# Altium integrated library ON Semi MOSFETs.IntLib: 1097 symbols (part 19 of 26)
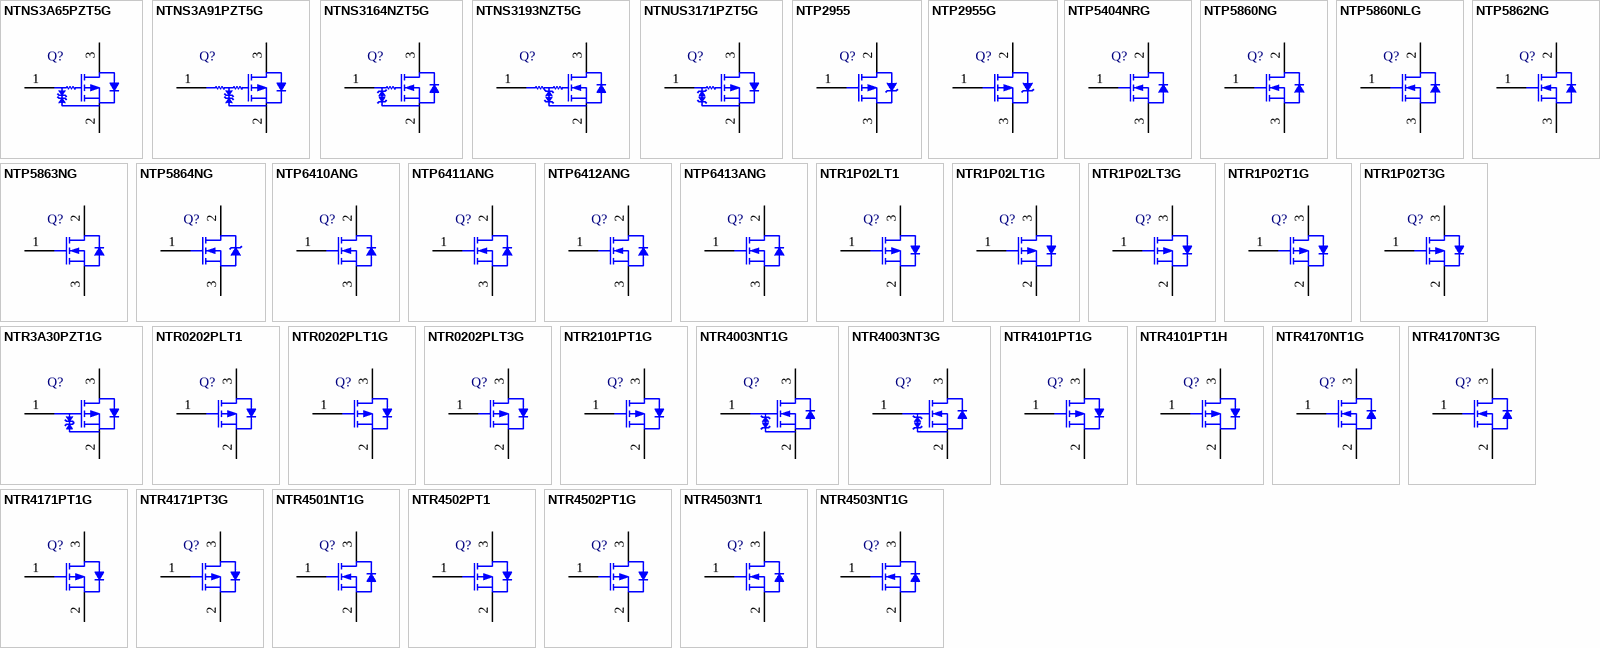
[diagram p49: symbols NTNS3A65PZT5G to NTR4503NT1G]

## NTR1P02LT1
designator Q?
Power MOSFET, -20 V, -1.3 A, P-Channel, 3-Pin SOT-23, Tape and Reel; Manufacturer: On Semiconductor; PartNumber: NTR1P02LT1; Channel Polarity: P Channel; Ciss Typ (pF): 225; Configuration: Single; Coss Typ (pF): 130; Crss Typ (pF): 55; ID Max (A): 1.3; PD Max (W): 0.4; Qrr Typ (nC): 8.5; V(BR)DSS Min (V): 20; VGS Max (V): 12; VGS(th) Max (V): 1.25; DatasheetVersion: Rev. 13; PackageVersion: Rev. AP, 11/2009; PackageReference: SOT-23-3-318-08; PackageDescription: 3-Pin Small Outline Transistor, Body 2.92 x 1.3 mm, Pitch 0.95 mm; Package Type: SOT-23-3; Packing: Tape and Reel; Mounting Technology: Surface Mount; ComponentLink1Description: Manufacturer URL; ComponentLink1URL: http://www.onsemi.com/; ComponentLink2Description: Datasheet; ComponentLink2URL: http://www.onsemi.cn/pub_link/Collateral/NTR1P02LT1-D.PDF; ComponentLink3Description: Package Specification; ComponentLink3URL: http://www.onsemi.cn/pub_link/Collateral/318-08.PDF
footprint ONSC-SOT-23-3-318-08_V (SOT23, 3-Leads, Body 2.92x1.3mm, Pitch 0.95mm)
pins: 1 G, 2 S, 3 D

## NTR1P02LT1G
designator Q?
Power MOSFET, -20 V, -1.3 A, P-Channel, 3-Pin SOT-23, Pb-Free, Tape and Reel; Manufacturer: On Semiconductor; PartNumber: NTR1P02LT1G; Channel Polarity: P Channel; Ciss Typ (pF): 225; Configuration: Single; Coss Typ (pF): 130; Crss Typ (pF): 55; ID Max (A): 1.3; PD Max (W): 0.4; Qrr Typ (nC): 8.5; V(BR)DSS Min (V): 20; VGS Max (V): 12; VGS(th) Max (V): 1.25; DatasheetVersion: Rev. 13; PackageVersion: Rev. AP, 11/2009; PackageReference: SOT-23-3-318-08; PackageDescription: 3-Pin Small Outline Transistor, Body 2.92 x 1.3 mm, Pitch 0.95 mm; Package Type: SOT-23-3; Packing: Tape and Reel; RoHS: Pb-Free; Mounting Technology: Surface Mount; ComponentLink1Description: Manufacturer URL; ComponentLink1URL: http://www.onsemi.com/; ComponentLink2Description: Datasheet; ComponentLink2URL: http://www.onsemi.cn/pub_link/Collateral/NTR1P02LT1-D.PDF; ComponentLink3Description: Package Specification; ComponentLink3URL: http://www.onsemi.cn/pub_link/Collateral/318-08.PDF
footprint ONSC-SOT-23-3-318-08_V (SOT23, 3-Leads, Body 2.92x1.3mm, Pitch 0.95mm)
pins: 1 G, 2 S, 3 D

## NTR1P02LT3G
designator Q?
Power MOSFET, -20 V, -1.3 A, P-Channel, 3-Pin SOT-23, Pb-Free, Tape and Reel; Manufacturer: On Semiconductor; PartNumber: NTR1P02LT3G; Channel Polarity: P Channel; Ciss Typ (pF): 225; Configuration: Single; Coss Typ (pF): 130; Crss Typ (pF): 55; ID Max (A): 1.3; PD Max (W): 0.4; Qrr Typ (nC): 8.5; V(BR)DSS Min (V): 20; VGS Max (V): 12; VGS(th) Max (V): 1.25; DatasheetVersion: Rev. 13; PackageVersion: Rev. AP, 11/2009; PackageReference: SOT-23-3-318-08; PackageDescription: 3-Pin Small Outline Transistor, Body 2.92 x 1.3 mm, Pitch 0.95 mm; Package Type: SOT-23-3; Packing: Tape and Reel; RoHS: Pb-Free; Mounting Technology: Surface Mount; ComponentLink1Description: Manufacturer URL; ComponentLink1URL: http://www.onsemi.com/; ComponentLink2Description: Datasheet; ComponentLink2URL: http://www.onsemi.cn/pub_link/Collateral/NTR1P02LT1-D.PDF; ComponentLink3Description: Package Specification; ComponentLink3URL: http://www.onsemi.cn/pub_link/Collateral/318-08.PDF
footprint ONSC-SOT-23-3-318-08_V (SOT23, 3-Leads, Body 2.92x1.3mm, Pitch 0.95mm)
pins: 1 G, 2 S, 3 D

## NTR1P02T1G
designator Q?
Power MOSFET, -20 V, -1 A, P-Channel, 3-Pin SOT-23, Pb-Free, Tape and Reel; Manufacturer: On Semiconductor; PartNumber: NTR1P02T1G; Channel Polarity: P Channel; Ciss Typ (pF): 165; Configuration: Single; Coss Typ (pF): 110; Crss Typ (pF): 35; ID Max (A): 1; PD Max (W): 0.4; Qrr Typ (nC): 8; V(BR)DSS Min (V): 20; VGS(th) Max (V): 2.3; DatasheetVersion: Rev. 7; PackageVersion: Rev. AP, 11/2009; PackageReference: SOT-23-3-318-08; PackageDescription: 3-Pin Small Outline Transistor, Body 2.92 x 1.3 mm, Pitch 0.95 mm; Package Type: SOT-23-3; Packing: Tape and Reel; RoHS: Pb-Free; VGS Max (V): 20; Mounting Technology: Surface Mount; ComponentLink1Description: Manufacturer URL; ComponentLink1URL: http://www.onsemi.com/; ComponentLink2Description: Datasheet; ComponentLink2URL: http://www.onsemi.cn/pub_link/Collateral/NTR1P02T1-D.PDF; ComponentLink3Description: Package Specification; ComponentLink3URL: http://www.onsemi.cn/pub_link/Collateral/318-08.PDF
footprint ONSC-SOT-23-3-318-08_V (SOT23, 3-Leads, Body 2.92x1.3mm, Pitch 0.95mm)
pins: 1 G, 2 S, 3 D

## NTR1P02T3G
designator Q?
Power MOSFET, -20 V, -1 A, P-Channel, 3-Pin SOT-23, Pb-Free, Tape and Reel; Manufacturer: On Semiconductor; PartNumber: NTR1P02T3G; Channel Polarity: P Channel; Ciss Typ (pF): 165; Configuration: Single; Coss Typ (pF): 110; Crss Typ (pF): 35; ID Max (A): 1; PD Max (W): 0.4; Qrr Typ (nC): 8; V(BR)DSS Min (V): 20; VGS(th) Max (V): 2.3; DatasheetVersion: Rev. 7; PackageVersion: Rev. AP, 11/2009; PackageReference: SOT-23-3-318-08; PackageDescription: 3-Pin Small Outline Transistor, Body 2.92 x 1.3 mm, Pitch 0.95 mm; Package Type: SOT-23-3; Packing: Tape and Reel; RoHS: Pb-Free; VGS Max (V): 20; Mounting Technology: Surface Mount; ComponentLink1Description: Manufacturer URL; ComponentLink1URL: http://www.onsemi.com/; ComponentLink2Description: Datasheet; ComponentLink2URL: http://www.onsemi.cn/pub_link/Collateral/NTR1P02T1-D.PDF; ComponentLink3Description: Package Specification; ComponentLink3URL: http://www.onsemi.cn/pub_link/Collateral/318-08.PDF
footprint ONSC-SOT-23-3-318-08_V (SOT23, 3-Leads, Body 2.92x1.3mm, Pitch 0.95mm)
pins: 1 G, 2 S, 3 D

## NTR3A30PZT1G
designator Q?
Power MOSFET, -20 V, -5.5 A, Single P-Channel, 3-Pin SOT-23, Pb-Free, Tape and Reel; Manufacturer: On Semiconductor; PartNumber: NTR3A30PZT1G; Channel Polarity: P Channel; Ciss Typ (pF): 1651; Coss Typ (pF): 148; Crss Typ (pF): 129; ID Max (A): 5.5; V(BR)DSS Min (V): 20; VGS Max (V): 8; VGS(th) Max (V): 1; DatasheetVersion: Rev. 1; PackageVersion: Rev. AP, 11/2009; PackageReference: SOT-23-3-318-08; PackageDescription: 3-Pin Small Outline Transistor, Body 2.92 x 1.3 mm, Pitch 0.95 mm; Supplier 1: Newark; Supplier Part Number 1: 97W6389; Supplier 2: Mouser; Supplier Part Number 2: 863-NTR3A30PZT1G; Configuration: Single; Package Type: SOT-23-3; Packing: Tape and Reel; RoHS: Pb-Free; Mounting Technology: Surface Mount; ComponentLink1Description: Manufacturer URL; ComponentLink1URL: http://www.onsemi.com/; ComponentLink2Description: Datasheet; ComponentLink2URL: http://www.onsemi.com/pub_link/Collateral/NTR3A30PZ-D.PDF; ComponentLink3Description: Package Specification; ComponentLink3URL: http://www.onsemi.cn/pub_link/Collateral/318-08.PDF
footprint ONSC-SOT-23-3-318-08_V (SOT23, 3-Leads, Body 2.92x1.3mm, Pitch 0.95mm)
pins: 1 G, 2 S, 3 D

## NTR0202PLT1
designator Q?
Power MOSFET, -20 V, -400 mA, P-Channel, 3-Pin SOT-23, Tape and Reel; Manufacturer: On Semiconductor; PartNumber: NTR0202PLT1; Channel Polarity: P Channel; Ciss Typ (pF): 70; Configuration: Single; Coss Typ (pF): 74; Crss Typ (pF): 26; ID Max (A): 0.4; PD Max (W): 0.225; Qrr Typ (nC): 7; V(BR)DSS Min (V): 20; VGS(th) Max (V): 2.3; DatasheetVersion: Rev. 5; PackageVersion: Rev. AP, 11/2009; PackageReference: SOT-23-3-318-08; PackageDescription: 3-Pin Small Outline Transistor, Body 2.92 x 1.3 mm, Pitch 0.95 mm; Package Type: SOT-23-3; Packing: Tape and Reel; VGS Max (V): 20; Mounting Technology: Surface Mount; ComponentLink1Description: Manufacturer URL; ComponentLink1URL: http://www.onsemi.com/; ComponentLink2Description: Datasheet; ComponentLink2URL: http://www.onsemi.cn/pub_link/Collateral/NTR0202PL-D.PDF; ComponentLink3Description: Package Specification; ComponentLink3URL: http://www.onsemi.cn/pub_link/Collateral/318-08.PDF
footprint ONSC-SOT-23-3-318-08_V (SOT23, 3-Leads, Body 2.92x1.3mm, Pitch 0.95mm)
pins: 1 G, 2 S, 3 D

## NTR0202PLT1G
designator Q?
Power MOSFET, -20 V, -400 mA, P-Channel, 3-Pin SOT-23, Pb-Free, Tape and Reel; Manufacturer: On Semiconductor; PartNumber: NTR0202PLT1G; Channel Polarity: P Channel; Ciss Typ (pF): 70; Configuration: Single; Coss Typ (pF): 74; Crss Typ (pF): 26; ID Max (A): 0.4; PD Max (W): 0.225; Qrr Typ (nC): 7; V(BR)DSS Min (V): 20; VGS(th) Max (V): 2.3; DatasheetVersion: Rev. 5; PackageVersion: Rev. AP, 11/2009; PackageReference: SOT-23-3-318-08; PackageDescription: 3-Pin Small Outline Transistor, Body 2.92 x 1.3 mm, Pitch 0.95 mm; Package Type: SOT-23-3; Packing: Tape and Reel; RoHS: Pb-Free; VGS Max (V): 20; Mounting Technology: Surface Mount; ComponentLink1Description: Manufacturer URL; ComponentLink1URL: http://www.onsemi.com/; ComponentLink2Description: Datasheet; ComponentLink2URL: http://www.onsemi.cn/pub_link/Collateral/NTR0202PL-D.PDF; ComponentLink3Description: Package Specification; ComponentLink3URL: http://www.onsemi.cn/pub_link/Collateral/318-08.PDF
footprint ONSC-SOT-23-3-318-08_V (SOT23, 3-Leads, Body 2.92x1.3mm, Pitch 0.95mm)
pins: 1 G, 2 S, 3 D

## NTR0202PLT3G
designator Q?
Power MOSFET, -20 V, -400 mA, P-Channel, 3-Pin SOT-23, Pb-Free, Tape and Reel; Manufacturer: On Semiconductor; PartNumber: NTR0202PLT3G; Channel Polarity: P Channel; Ciss Typ (pF): 70; Configuration: Single; Coss Typ (pF): 74; Crss Typ (pF): 26; ID Max (A): 0.4; PD Max (W): 0.225; Qrr Typ (nC): 7; V(BR)DSS Min (V): 20; VGS(th) Max (V): 2.3; DatasheetVersion: Rev. 5; PackageVersion: Rev. AP, 11/2009; PackageReference: SOT-23-3-318-08; PackageDescription: 3-Pin Small Outline Transistor, Body 2.92 x 1.3 mm, Pitch 0.95 mm; Package Type: SOT-23-3; Packing: Tape and Reel; RoHS: Pb-Free; VGS Max (V): 20; Mounting Technology: Surface Mount; ComponentLink1Description: Manufacturer URL; ComponentLink1URL: http://www.onsemi.com/; ComponentLink2Description: Datasheet; ComponentLink2URL: http://www.onsemi.cn/pub_link/Collateral/NTR0202PL-D.PDF; ComponentLink3Description: Package Specification; ComponentLink3URL: http://www.onsemi.cn/pub_link/Collateral/318-08.PDF
footprint ONSC-SOT-23-3-318-08_V (SOT23, 3-Leads, Body 2.92x1.3mm, Pitch 0.95mm)
pins: 1 G, 2 S, 3 D

## NTR2101PT1G
designator Q?
Small Signal MOSFET, -8 V, -3.7 A, Single P-Channel, 3-Pin SOT-23, Pb-Free, Tape and Reel; Manufacturer: On Semiconductor; PartNumber: NTR2101PT1G; Channel Polarity: P Channel; Ciss Typ (pF): 1173; Coss Typ (pF): 289; Crss Typ (pF): 218; ID Max (A): 3.7; PD Max (W): 0.96; V(BR)DSS Min (V): 8; VGS(th) Max (V): 1; DatasheetVersion: Rev. 6; PackageVersion: Rev. AP, 11/2009; PackageReference: SOT-23-3-318-08; PackageDescription: 3-Pin Small Outline Transistor, Body 2.92 x 1.3 mm, Pitch 0.95 mm; Configuration: Single; Package Type: SOT-23-3; Packing: Tape and Reel; RoHS: Pb-Free; VGS Max (V): 8; Mounting Technology: Surface Mount; ComponentLink1Description: Manufacturer URL; ComponentLink1URL: http://www.onsemi.com/; ComponentLink2Description: Datasheet; ComponentLink2URL: http://www.onsemi.cn/pub_link/Collateral/NTR2101P-D.PDF; ComponentLink3Description: Package Specification; ComponentLink3URL: http://www.onsemi.cn/pub_link/Collateral/318-08.PDF
footprint ONSC-SOT-23-3-318-08_V (SOT23, 3-Leads, Body 2.92x1.3mm, Pitch 0.95mm)
pins: 1 G, 2 S, 3 D

## NTR4003NT1G
designator Q?
Small Signal MOSFET, 30 V, 0.56 A, Single N-Channe, 3-Pin SOT-23, Pb-Free, Tape and Reel; Manufacturer: On Semiconductor; PartNumber: NTR4003NT1G; Channel Polarity: N Channel; Ciss Typ (pF): 21; Coss Typ (pF): 19.7; Crss Typ (pF): 8.1; ID Max (A): 0.56; V(BR)DSS Min (V): 30; VGS Max (V): 20; VGS(th) Max (V): 1.4; DatasheetVersion: Rev. 3; PackageVersion: Rev. AP, 11/2009; PackageReference: SOT-23-3-318-08; PackageDescription: 3-Pin Small Outline Transistor, Body 2.92 x 1.3 mm, Pitch 0.95 mm; Supplier 1: Digi-Key; Supplier Part Number 1: NTR4003NT1GOSTR-ND; Supplier 2: Digi-Key; Supplier Part Number 2: NTR4003NT1GOSCT-ND; Supplier 3: Digi-Key; Supplier Part Number 3: NTR4003NT1GOSDKR-ND; Supplier 4: Farnell; Supplier Part Number 4: 1453635RL; Supplier 5: Farnell; Supplier Part Number 5: 1453635; Supplier 6: Newark; Supplier Part Number 6: 58M9926; Supplier 7: Newark; Supplier Part Number 7: 10N9588; Supplier 8: Newark; Supplier Part Number 8: 27M2766; Supplier 9: Mouser; Supplier Part Number 9: 863-NTR4003NT1G; Configuration: Single; Package Type: SOT-23-3; Packing: Tape and Reel; RoHS: Pb-Free; Mounting Technology: Surface Mount; ComponentLink1Description: Manufacturer URL; ComponentLink1URL: http://www.onsemi.com/; ComponentLink2Description: Datasheet; ComponentLink2URL: http://www.onsemi.cn/pub_link/Collateral/NTR4003N-D.PDF; ComponentLink3Description: Package Specification; ComponentLink3URL: http://www.onsemi.cn/pub_link/Collateral/318-08.PDF
footprint ONSC-SOT-23-3-318-08_V (SOT23, 3-Leads, Body 2.92x1.3mm, Pitch 0.95mm)
pins: 1 G, 2 S, 3 D

## NTR4003NT3G
designator Q?
Small Signal MOSFET, 30 V, 0.56 A, Single N-Channe, 3-Pin SOT-23, Pb-Free, Tape and Reel; Manufacturer: On Semiconductor; PartNumber: NTR4003NT3G; Channel Polarity: N Channel; Ciss Typ (pF): 21; Coss Typ (pF): 19.7; Crss Typ (pF): 8.1; ID Max (A): 0.56; V(BR)DSS Min (V): 30; VGS Max (V): 20; VGS(th) Max (V): 1.4; DatasheetVersion: Rev. 3; PackageVersion: Rev. AP, 11/2009; PackageReference: SOT-23-3-318-08; PackageDescription: 3-Pin Small Outline Transistor, Body 2.92 x 1.3 mm, Pitch 0.95 mm; Supplier 1: Digi-Key; Supplier Part Number 1: NTR4003NT3GOSTR-ND; Supplier 2: Digi-Key; Supplier Part Number 2: NTR4003NT3GOSCT-ND; Supplier 3: Digi-Key; Supplier Part Number 3: NTR4003NT3GOSDKR-ND; Supplier 4: Farnell; Supplier Part Number 4: 2101820; Supplier 5: Farnell; Supplier Part Number 5: 2369155; Supplier 6: Mouser; Supplier Part Number 6: 863-NTR4003NT3G; Configuration: Single; Package Type: SOT-23-3; Packing: Tape and Reel; RoHS: Pb-Free; Mounting Technology: Surface Mount; ComponentLink1Description: Manufacturer URL; ComponentLink1URL: http://www.onsemi.com/; ComponentLink2Description: Datasheet; ComponentLink2URL: http://www.onsemi.cn/pub_link/Collateral/NTR4003N-D.PDF; ComponentLink3Description: Package Specification; ComponentLink3URL: http://www.onsemi.cn/pub_link/Collateral/318-08.PDF
footprint ONSC-SOT-23-3-318-08_V (SOT23, 3-Leads, Body 2.92x1.3mm, Pitch 0.95mm)
pins: 1 G, 2 S, 3 D

## NTR4101PT1G
designator Q?
Trench Power MOSFET, -20 V, Single P-Channel, 3-Pin SOT-23, Pb-Free, Tape and Reel; Manufacturer: On Semiconductor; PartNumber: NTR4101PT1G; Channel Polarity: P Channel; Ciss Typ (pF): 675; Coss Typ (pF): 100; Crss Typ (pF): 75; ID Max (A): 3.2; Qrr Typ (nC): 1008; V(BR)DSS Min (V): 20; VGS Max (V): 8; VGS(th) Max (V): 1.2; DatasheetVersion: Rev. 9; PackageVersion: Rev. AP, 11/2009; PackageReference: SOT-23-3-318-08; PackageDescription: 3-Pin Small Outline Transistor, Body 2.92 x 1.3 mm, Pitch 0.95 mm; Supplier 1: Digi-Key; Supplier Part Number 1: NTR4101PT1GOSTR-ND; Supplier 2: Digi-Key; Supplier Part Number 2: NTR4101PT1GOSCT-ND; Supplier 3: Digi-Key; Supplier Part Number 3: NTR4101PT1GOSDKR-ND; Supplier 4: Farnell; Supplier Part Number 4: 2317885; Supplier 5: Farnell; Supplier Part Number 5: 1431303RL; Supplier 6: Farnell; Supplier Part Number 6: 1431303; Supplier 7: Newark; Supplier Part Number 7: 88H5127; Supplier 8: Newark; Supplier Part Number 8: 10P1661; Supplier 9: Mouser; Supplier Part Number 9: 863-NTR4101PT1G; Configuration: Single; Package Type: SOT-23-3; Packing: Tape and Reel; RoHS: Pb-Free; Mounting Technology: Surface Mount; ComponentLink1Description: Manufacturer URL; ComponentLink1URL: http://www.onsemi.com/; ComponentLink2Description: Datasheet; ComponentLink2URL: http://www.onsemi.cn/pub_link/Collateral/NTR4101P-D.PDF; ComponentLink3Description: Package Specification; ComponentLink3URL: http://www.onsemi.cn/pub_link/Collateral/318-08.PDF
footprint ONSC-SOT-23-3-318-08_V (SOT23, 3-Leads, Body 2.92x1.3mm, Pitch 0.95mm)
pins: 1 G, 2 S, 3 D

## NTR4101PT1H
designator Q?
Trench Power MOSFET, -20 V, Single P-Channel, 3-Pin SOT-23, Pb-Free, Tape and Reel; Manufacturer: On Semiconductor; PartNumber: NTR4101PT1H; Channel Polarity: P Channel; Ciss Typ (pF): 675; Coss Typ (pF): 100; Crss Typ (pF): 75; ID Max (A): 3.2; Qrr Typ (nC): 1008; V(BR)DSS Min (V): 20; VGS Max (V): 8; VGS(th) Max (V): 1.2; DatasheetVersion: Rev. 9; PackageVersion: Rev. AP, 11/2009; PackageReference: SOT-23-3-318-08; PackageDescription: 3-Pin Small Outline Transistor, Body 2.92 x 1.3 mm, Pitch 0.95 mm; Supplier 1: Newark; Supplier Part Number 1: 60W1811; Supplier 2: Mouser; Supplier Part Number 2: 863-NTR4101PT1H; Configuration: Single; Package Type: SOT-23-3; Packing: Tape and Reel; RoHS: Pb-Free; Mounting Technology: Surface Mount; ComponentLink1Description: Manufacturer URL; ComponentLink1URL: http://www.onsemi.com/; ComponentLink2Description: Datasheet; ComponentLink2URL: http://www.onsemi.cn/pub_link/Collateral/NTR4101P-D.PDF; ComponentLink3Description: Package Specification; ComponentLink3URL: http://www.onsemi.cn/pub_link/Collateral/318-08.PDF
footprint ONSC-SOT-23-3-318-08_V (SOT23, 3-Leads, Body 2.92x1.3mm, Pitch 0.95mm)
pins: 1 G, 2 S, 3 D

## NTR4170NT1G
designator Q?
Power MOSFET, 30 V, 3.1 A, Single N-Channe, 3-Pin SOT-23, Pb-Free, Tape and Reel; Manufacturer: On Semiconductor; PartNumber: NTR4170NT1G; Channel Polarity: N Channel; Ciss Typ (pF): 432; Coss Typ (pF): 53.6; Crss Typ (pF): 37.1; Qrr Typ (nC): 2.9; V(BR)DSS Min (V): 30; VGS Max (V): 12; VGS(th) Max (V): 1.4; DatasheetVersion: Rev. 1; PackageVersion: Rev. AP, 11/2009; PackageReference: SOT-23-3-318-08; PackageDescription: 3-Pin Small Outline Transistor, Body 2.92 x 1.3 mm, Pitch 0.95 mm; Supplier 1: Digi-Key; Supplier Part Number 1: NTR4170NT1GOSTR-ND; Supplier 2: Digi-Key; Supplier Part Number 2: NTR4170NT1GOSCT-ND; Supplier 3: Digi-Key; Supplier Part Number 3: NTR4170NT1GOSDKR-ND; Supplier 4: Farnell; Supplier Part Number 4: 2368458; Supplier 5: Farnell; Supplier Part Number 5: 1887064; Supplier 6: Newark; Supplier Part Number 6: 05R9180; Supplier 7: Newark; Supplier Part Number 7: 08R4025; Supplier 8: Mouser; Supplier Part Number 8: 863-NTR4170NT1G; Configuration: Single; Package Type: SOT-23-3; Packing: Tape and Reel; RoHS: Pb-Free; Mounting Technology: Surface Mount; ComponentLink1Description: Manufacturer URL; ComponentLink1URL: http://www.onsemi.com/; ComponentLink2Description: Datasheet; ComponentLink2URL: http://www.onsemi.cn/pub_link/Collateral/NTR4170N-D.PDF; ComponentLink3Description: Package Specification; ComponentLink3URL: http://www.onsemi.cn/pub_link/Collateral/318-08.PDF
footprint ONSC-SOT-23-3-318-08_V (SOT23, 3-Leads, Body 2.92x1.3mm, Pitch 0.95mm)
pins: 1 G, 2 S, 3 D

## NTR4170NT3G
designator Q?
Power MOSFET, 30 V, 3.1 A, Single N-Channe, 3-Pin SOT-23, Pb-Free, Tape and Reel; Manufacturer: On Semiconductor; PartNumber: NTR4170NT3G; Channel Polarity: N Channel; Ciss Typ (pF): 432; Coss Typ (pF): 53.6; Crss Typ (pF): 37.1; Qrr Typ (nC): 2.9; V(BR)DSS Min (V): 30; VGS Max (V): 12; VGS(th) Max (V): 1.4; DatasheetVersion: Rev. 1; PackageVersion: Rev. AP, 11/2009; PackageReference: SOT-23-3-318-08; PackageDescription: 3-Pin Small Outline Transistor, Body 2.92 x 1.3 mm, Pitch 0.95 mm; Supplier 1: Digi-Key; Supplier Part Number 1: NTR4170NT3G-ND; Supplier 2: Mouser; Supplier Part Number 2: 863-NTR4170NT3G; Configuration: Single; Package Type: SOT-23-3; Packing: Tape and Reel; RoHS: Pb-Free; Mounting Technology: Surface Mount; ComponentLink1Description: Manufacturer URL; ComponentLink1URL: http://www.onsemi.com/; ComponentLink2Description: Datasheet; ComponentLink2URL: http://www.onsemi.cn/pub_link/Collateral/NTR4170N-D.PDF; ComponentLink3Description: Package Specification; ComponentLink3URL: http://www.onsemi.cn/pub_link/Collateral/318-08.PDF
footprint ONSC-SOT-23-3-318-08_V (SOT23, 3-Leads, Body 2.92x1.3mm, Pitch 0.95mm)
pins: 1 G, 2 S, 3 D

## NTR4171PT1G
designator Q?
Power MOSFET, -30 V, 3.5 A, Single P-Channel, 3-Pin SOT-23, Pb-Free, Tape and Reel; Manufacturer: On Semiconductor; PartNumber: NTR4171PT1G; Channel Polarity: P Channel; Ciss Typ (pF): 720; Coss Typ (pF): 95; Crss Typ (pF): 65; Qrr Typ (nC): 8; V(BR)DSS Min (V): 30; VGS Max (V): 12; VGS(th) Max (V): 1.4; DatasheetVersion: Rev. 1; PackageVersion: Rev. AP, 11/2009; PackageReference: SOT-23-3-318-08; PackageDescription: 3-Pin Small Outline Transistor, Body 2.92 x 1.3 mm, Pitch 0.95 mm; Supplier 1: Digi-Key; Supplier Part Number 1: NTR4171PT1GOSTR-ND; Supplier 2: Digi-Key; Supplier Part Number 2: NTR4171PT1GOSCT-ND; Supplier 3: Digi-Key; Supplier Part Number 3: NTR4171PT1GOSDKR-ND; Supplier 4: Farnell; Supplier Part Number 4: 2317888; Supplier 5: Farnell; Supplier Part Number 5: 1899514; Supplier 6: Newark; Supplier Part Number 6: 08R4026; Supplier 7: Newark; Supplier Part Number 7: 05R9181; Supplier 8: Mouser; Supplier Part Number 8: 863-NTR4171PT1G; Configuration: Single; Package Type: SOT-23-3; Packing: Tape and Reel; RoHS: Pb-Free; Mounting Technology: Surface Mount; ComponentLink1Description: Manufacturer URL; ComponentLink1URL: http://www.onsemi.com/; ComponentLink2Description: Datasheet; ComponentLink2URL: http://www.onsemi.cn/pub_link/Collateral/NTR4171P-D.PDF; ComponentLink3Description: Package Specification; ComponentLink3URL: http://www.onsemi.cn/pub_link/Collateral/318-08.PDF
footprint ONSC-SOT-23-3-318-08_V (SOT23, 3-Leads, Body 2.92x1.3mm, Pitch 0.95mm)
pins: 1 G, 2 S, 3 D

## NTR4171PT3G
designator Q?
Power MOSFET, -30 V, 3.5 A, Single P-Channel, 3-Pin SOT-23, Pb-Free, Tape and Reel; Manufacturer: On Semiconductor; PartNumber: NTR4171PT3G; Channel Polarity: P Channel; Ciss Typ (pF): 720; Coss Typ (pF): 95; Crss Typ (pF): 65; Qrr Typ (nC): 8; V(BR)DSS Min (V): 30; VGS Max (V): 12; VGS(th) Max (V): 1.4; DatasheetVersion: Rev. 1; PackageVersion: Rev. AP, 11/2009; PackageReference: SOT-23-3-318-08; PackageDescription: 3-Pin Small Outline Transistor, Body 2.92 x 1.3 mm, Pitch 0.95 mm; Supplier 1: Digi-Key; Supplier Part Number 1: NTR4171PT3G-ND; Supplier 2: Mouser; Supplier Part Number 2: 863-NTR4171PT3G; Configuration: Single; Package Type: SOT-23-3; Packing: Tape and Reel; RoHS: Pb-Free; Mounting Technology: Surface Mount; ComponentLink1Description: Manufacturer URL; ComponentLink1URL: http://www.onsemi.com/; ComponentLink2Description: Datasheet; ComponentLink2URL: http://www.onsemi.cn/pub_link/Collateral/NTR4171P-D.PDF; ComponentLink3Description: Package Specification; ComponentLink3URL: http://www.onsemi.cn/pub_link/Collateral/318-08.PDF
footprint ONSC-SOT-23-3-318-08_V (SOT23, 3-Leads, Body 2.92x1.3mm, Pitch 0.95mm)
pins: 1 G, 2 S, 3 D

## NTR4501NT1G
designator Q?
Power MOSFET, 20 V, 3.2 A, Single N-Channel, 3-Pin SOT-23, Pb-Free, Tape and Reel; Manufacturer: On Semiconductor; PartNumber: NTR4501NT1G; Channel Polarity: N Channel; Ciss Typ (pF): 200; Coss Typ (pF): 80; Crss Typ (pF): 50; PD Max (W): 1.25; Qrr Typ (nC): 3; V(BR)DSS Min (V): 20; VGS Max (V): 12; VGS(th) Max (V): 1.2; DatasheetVersion: Rev. 13; PackageVersion: Rev. AP, 11/2009; PackageReference: SOT-23-3-318-08; PackageDescription: 3-Pin Small Outline Transistor, Body 2.92 x 1.3 mm, Pitch 0.95 mm; Supplier 1: Digi-Key; Supplier Part Number 1: NTR4501NT1GOSTR-ND; Supplier 2: Digi-Key; Supplier Part Number 2: NTR4501NT1GOSCT-ND; Supplier 3: Digi-Key; Supplier Part Number 3: NTR4501NT1GOSDKR-ND; Supplier 4: Farnell; Supplier Part Number 4: 1431305; Supplier 5: Farnell; Supplier Part Number 5: 1431305RL; Supplier 6: Newark; Supplier Part Number 6: 45J2175; Supplier 7: Newark; Supplier Part Number 7: 06R3476; Supplier 8: Mouser; Supplier Part Number 8: 863-NTR4501NT1G; Configuration: Single; Package Type: SOT-23-3; Packing: Tape and Reel; RoHS: Pb-Free; Mounting Technology: Surface Mount; ComponentLink1Description: Manufacturer URL; ComponentLink1URL: http://www.onsemi.com/; ComponentLink2Description: Datasheet; ComponentLink2URL: http://www.onsemi.cn/pub_link/Collateral/NTR4501N-D.PDF; ComponentLink3Description: Package Specification; ComponentLink3URL: http://www.onsemi.cn/pub_link/Collateral/318-08.PDF
footprint ONSC-SOT-23-3-318-08_V (SOT23, 3-Leads, Body 2.92x1.3mm, Pitch 0.95mm)
pins: 1 G, 2 S, 3 D

## NTR4502PT1
designator Q?
Power MOSFET, -30 V, -1.95 A, Single, P-Channel, 3-Pin SOT-23, Tape and Reel; Manufacturer: On Semiconductor; PartNumber: NTR4502PT1; Channel Polarity: P Channel; Ciss Typ (pF): 200; Coss Typ (pF): 80; Crss Typ (pF): 50; ID Max (A): 1.95; V(BR)DSS Min (V): 30; VGS Max (V): 20; VGS(th) Max (V): 3; DatasheetVersion: Rev. 5; PackageVersion: Rev. AP, 11/2009; PackageReference: SOT-23-3-318-08; PackageDescription: 3-Pin Small Outline Transistor, Body 2.92 x 1.3 mm, Pitch 0.95 mm; Supplier 1: Digi-Key; Supplier Part Number 1: NTR4502PT1-ND; Configuration: Single; Package Type: SOT-23-3; Packing: Tape and Reel; Mounting Technology: Surface Mount; ComponentLink1Description: Manufacturer URL; ComponentLink1URL: http://www.onsemi.com/; ComponentLink2Description: Datasheet; ComponentLink2URL: http://www.onsemi.cn/pub_link/Collateral/NTR4502P-D.PDF; ComponentLink3Description: Package Specification; ComponentLink3URL: http://www.onsemi.cn/pub_link/Collateral/318-08.PDF
footprint ONSC-SOT-23-3-318-08_V (SOT23, 3-Leads, Body 2.92x1.3mm, Pitch 0.95mm)
pins: 1 G, 2 S, 3 D

## NTR4502PT1G
designator Q?
Power MOSFET, -30 V, -1.95 A, Single, P-Channel, 3-Pin SOT-23, Pb-Free, Tape and Reel; Manufacturer: On Semiconductor; PartNumber: NTR4502PT1G; Channel Polarity: P Channel; Ciss Typ (pF): 200; Coss Typ (pF): 80; Crss Typ (pF): 50; ID Max (A): 1.95; V(BR)DSS Min (V): 30; VGS Max (V): 20; VGS(th) Max (V): 3; DatasheetVersion: Rev. 5; PackageVersion: Rev. AP, 11/2009; PackageReference: SOT-23-3-318-08; PackageDescription: 3-Pin Small Outline Transistor, Body 2.92 x 1.3 mm, Pitch 0.95 mm; Supplier 1: Digi-Key; Supplier Part Number 1: NTR4502PT1GOSTR-ND; Supplier 2: Digi-Key; Supplier Part Number 2: NTR4502PT1GOSCT-ND; Supplier 3: Digi-Key; Supplier Part Number 3: NTR4502PT1GOSDKR-ND; Supplier 4: Farnell; Supplier Part Number 4: 1431308; Supplier 5: Farnell; Supplier Part Number 5: 1431308RL; Supplier 6: Newark; Supplier Part Number 6: 10N9589; Supplier 7: Newark; Supplier Part Number 7: 98H0966; Supplier 8: Mouser; Supplier Part Number 8: 863-NTR4502PT1G; Configuration: Single; Package Type: SOT-23-3; Packing: Tape and Reel; RoHS: Pb-Free; Mounting Technology: Surface Mount; ComponentLink1Description: Manufacturer URL; ComponentLink1URL: http://www.onsemi.com/; ComponentLink2Description: Datasheet; ComponentLink2URL: http://www.onsemi.cn/pub_link/Collateral/NTR4502P-D.PDF; ComponentLink3Description: Package Specification; ComponentLink3URL: http://www.onsemi.cn/pub_link/Collateral/318-08.PDF
footprint ONSC-SOT-23-3-318-08_V (SOT23, 3-Leads, Body 2.92x1.3mm, Pitch 0.95mm)
pins: 1 G, 2 S, 3 D

## NTR4503NT1
designator Q?
Power MOSFET, 30 V, 2.5 A, Single N-Channel, 3-Pin SOT-23, Tape and Reel; Manufacturer: On Semiconductor; PartNumber: NTR4503NT1; Channel Polarity: N Channel; ID Max (A): 2.5; Qrr Typ (nC): 4; V(BR)DSS Min (V): 30; VGS Max (V): 20; VGS(th) Max (V): 3; DatasheetVersion: Rev. 6; PackageVersion: Rev. AP, 11/2009; PackageReference: SOT-23-3-318-08; PackageDescription: 3-Pin Small Outline Transistor, Body 2.92 x 1.3 mm, Pitch 0.95 mm; Supplier 1: Digi-Key; Supplier Part Number 1: NTR4503NT1-ND; Configuration: Single; Package Type: SOT-23-3; Packing: Tape and Reel; Mounting Technology: Surface Mount; ComponentLink1Description: Manufacturer URL; ComponentLink1URL: http://www.onsemi.com/; ComponentLink2Description: Datasheet; ComponentLink2URL: http://www.onsemi.cn/pub_link/Collateral/NTR4503N-D.PDF; ComponentLink3Description: Package Specification; ComponentLink3URL: http://www.onsemi.cn/pub_link/Collateral/318-08.PDF
footprint ONSC-SOT-23-3-318-08_V (SOT23, 3-Leads, Body 2.92x1.3mm, Pitch 0.95mm)
pins: 1 G, 2 S, 3 D

## NTR4503NT1G
designator Q?
Power MOSFET, 30 V, 2.5 A, Single N-Channel, 3-Pin SOT-23, Pb-Free, Tape and Reel; Manufacturer: On Semiconductor; PartNumber: NTR4503NT1G; Channel Polarity: N Channel; ID Max (A): 2.5; Qrr Typ (nC): 4; V(BR)DSS Min (V): 30; VGS Max (V): 20; VGS(th) Max (V): 3; DatasheetVersion: Rev. 6; PackageVersion: Rev. AP, 11/2009; PackageReference: SOT-23-3-318-08; PackageDescription: 3-Pin Small Outline Transistor, Body 2.92 x 1.3 mm, Pitch 0.95 mm; Supplier 1: Digi-Key; Supplier Part Number 1: NTR4503NT1GOSTR-ND; Supplier 2: Digi-Key; Supplier Part Number 2: NTR4503NT1GOSCT-ND; Supplier 3: Digi-Key; Supplier Part Number 3: NTR4503NT1GOSDKR-ND; Supplier 4: Farnell; Supplier Part Number 4: 1431309; Supplier 5: Farnell; Supplier Part Number 5: 1431309RL; Supplier 6: Farnell; Supplier Part Number 6: 1899563; Supplier 7: Newark; Supplier Part Number 7: 10N9590; Supplier 8: Newark; Supplier Part Number 8: 45J2177; Supplier 9: Mouser; Supplier Part Number 9: 863-NTR4503NT1G; Configuration: Single; Package Type: SOT-23-3; Packing: Tape and Reel; RoHS: Pb-Free; Mounting Technology: Surface Mount; ComponentLink1Description: Manufacturer URL; ComponentLink1URL: http://www.onsemi.com/; ComponentLink2Description: Datasheet; ComponentLink2URL: http://www.onsemi.cn/pub_link/Collateral/NTR4503N-D.PDF; ComponentLink3Description: Package Specification; ComponentLink3URL: http://www.onsemi.cn/pub_link/Collateral/318-08.PDF
footprint ONSC-SOT-23-3-318-08_V (SOT23, 3-Leads, Body 2.92x1.3mm, Pitch 0.95mm)
pins: 1 G, 2 S, 3 D

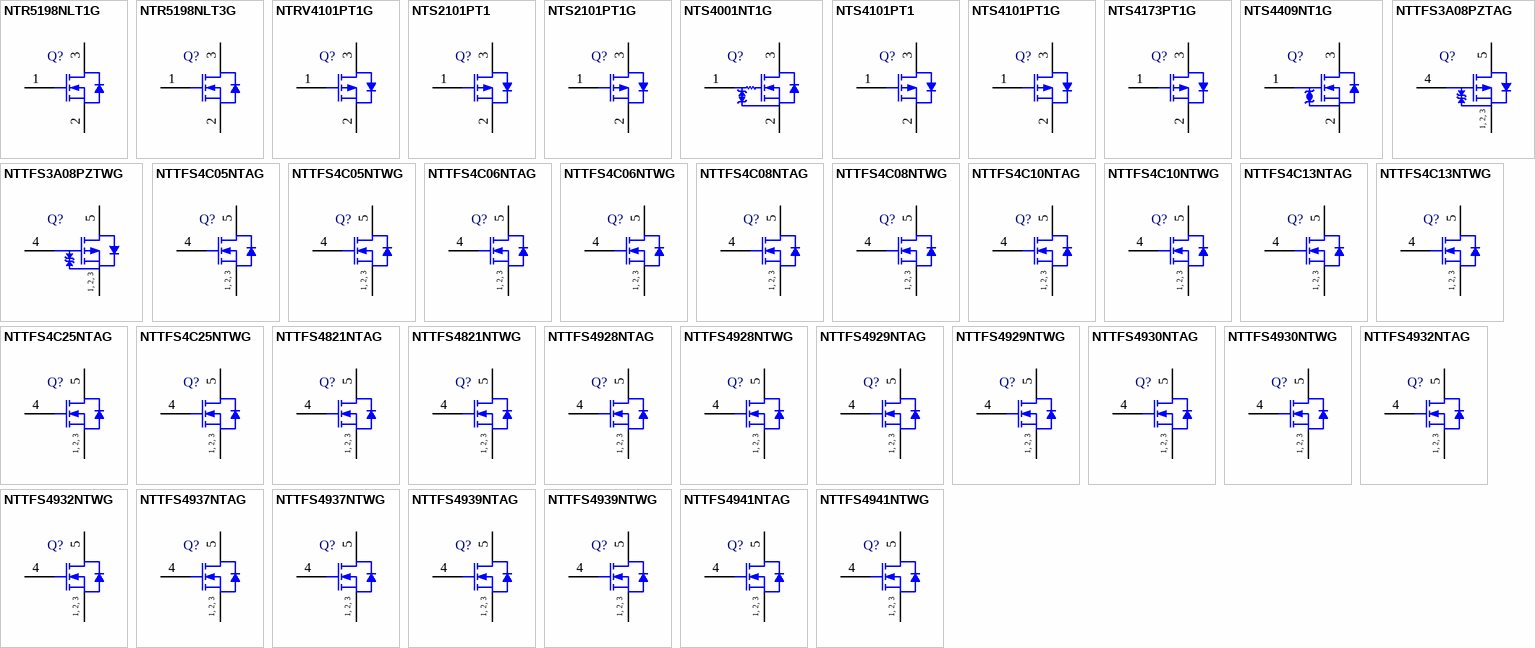
[diagram p23: symbols NTR5198NLT1G to NTTFS4941NTWG]

## NTR5198NLT1G
designator Q?
Power MOSFET, 60 V, 155 mOhm, Single N-Channel Logic Level, 3-Pin SOT-23, Pb-Free, Tape and Reel; Manufacturer: On Semiconductor; PartNumber: NTR5198NLT1G; Channel Polarity: N Channel; Ciss Typ (pF): 182; Coss Typ (pF): 25; Crss Typ (pF): 16; ID Max (A): 2.2; Qrr Typ (nC): 6; V(BR)DSS Min (V): 60; VGS Max (V): 20; VGS(th) Max (V): 2.5; DatasheetVersion: Rev. 0; PackageVersion: Rev. AP, 11/2009; PackageReference: SOT-23-3-318-08; PackageDescription: 3-Pin Small Outline Transistor, Body 2.92 x 1.3 mm, Pitch 0.95 mm; Supplier 1: Digi-Key; Supplier Part Number 1: NTR5198NLT1GOSTR-ND; Supplier 2: Digi-Key; Supplier Part Number 2: NTR5198NLT1GOSCT-ND; Supplier 3: Digi-Key; Supplier Part Number 3: NTR5198NLT1GOSDKR-ND; Supplier 4: Newark; Supplier Part Number 4: 11X3689; Supplier 5: Mouser; Supplier Part Number 5: 863-NTR5198NLT1G; Configuration: Single; Package Type: SOT-23-3; Packing: Tape and Reel; RoHS: Pb-Free; Mounting Technology: Surface Mount; ComponentLink1Description: Manufacturer URL; ComponentLink1URL: http://www.onsemi.com/; ComponentLink2Description: Datasheet; ComponentLink2URL: http://www.onsemi.com/pub_link/Collateral/NTR5198NL-D.PDF; ComponentLink3Description: Package Specification; ComponentLink3URL: http://www.onsemi.cn/pub_link/Collateral/318-08.PDF
footprint ONSC-SOT-23-3-318-08_V (SOT23, 3-Leads, Body 2.92x1.3mm, Pitch 0.95mm)
pins: 1 G, 2 S, 3 D

## NTR5198NLT3G
designator Q?
Power MOSFET, 60 V, 155 mOhm, Single N-Channel Logic Level, 3-Pin SOT-23, Pb-Free, Tape and Reel; Manufacturer: On Semiconductor; PartNumber: NTR5198NLT3G; Channel Polarity: N Channel; Ciss Typ (pF): 182; Coss Typ (pF): 25; Crss Typ (pF): 16; ID Max (A): 2.2; Qrr Typ (nC): 6; V(BR)DSS Min (V): 60; VGS Max (V): 20; VGS(th) Max (V): 2.5; DatasheetVersion: Rev. 0; PackageVersion: Rev. AP, 11/2009; PackageReference: SOT-23-3-318-08; PackageDescription: 3-Pin Small Outline Transistor, Body 2.92 x 1.3 mm, Pitch 0.95 mm; Supplier 1: Newark; Supplier Part Number 1: 11X3690; Supplier 2: Mouser; Supplier Part Number 2: 863-NTR5198NLT3G; Configuration: Single; Package Type: SOT-23-3; Packing: Tape and Reel; RoHS: Pb-Free; Mounting Technology: Surface Mount; ComponentLink1Description: Manufacturer URL; ComponentLink1URL: http://www.onsemi.com/; ComponentLink2Description: Datasheet; ComponentLink2URL: http://www.onsemi.com/pub_link/Collateral/NTR5198NL-D.PDF; ComponentLink3Description: Package Specification; ComponentLink3URL: http://www.onsemi.cn/pub_link/Collateral/318-08.PDF
footprint ONSC-SOT-23-3-318-08_V (SOT23, 3-Leads, Body 2.92x1.3mm, Pitch 0.95mm)
pins: 1 G, 2 S, 3 D

## NTRV4101PT1G
designator Q?
Trench Power MOSFET, -20 V, Single P-Channel, 3-Pin SOT-23, Pb-Free, Tape and Reel; Manufacturer: On Semiconductor; PartNumber: NTRV4101PT1G; Channel Polarity: P Channel; Ciss Typ (pF): 675; Coss Typ (pF): 100; Crss Typ (pF): 75; ID Max (A): 3.2; Qrr Typ (nC): 1008; V(BR)DSS Min (V): 20; VGS Max (V): 8; VGS(th) Max (V): 1.2; DatasheetVersion: Rev. 9; PackageVersion: Rev. AP, 11/2009; PackageReference: SOT-23-3-318-08; PackageDescription: 3-Pin Small Outline Transistor, Body 2.92 x 1.3 mm, Pitch 0.95 mm; Supplier 1: Digi-Key; Supplier Part Number 1: NTRV4101PT1G-ND; Supplier 2: Newark; Supplier Part Number 2: 76T6758; Supplier 3: Mouser; Supplier Part Number 3: 863-NTRV4101PT1G; Configuration: Single; Package Type: SOT-23-3; Packing: Tape and Reel; RoHS: Pb-Free; Mounting Technology: Surface Mount; ComponentLink1Description: Manufacturer URL; ComponentLink1URL: http://www.onsemi.com/; ComponentLink2Description: Datasheet; ComponentLink2URL: http://www.onsemi.cn/pub_link/Collateral/NTR4101P-D.PDF; ComponentLink3Description: Package Specification; ComponentLink3URL: http://www.onsemi.cn/pub_link/Collateral/318-08.PDF
footprint ONSC-SOT-23-3-318-08_V (SOT23, 3-Leads, Body 2.92x1.3mm, Pitch 0.95mm)
pins: 1 G, 2 S, 3 D

## NTS2101PT1
designator Q?
Power MOSFET, -8 V, -1.4 A, Single P-Channel, 3-Pin SOT-323, Tape and Reel; Manufacturer: On Semiconductor; PartNumber: NTS2101PT1; Channel Polarity: P Channel; Ciss Typ (pF): 640; Coss Typ (pF): 120; Crss Typ (pF): 82; ID Max (A): 1.4; Qrr Typ (nC): 9.5; V(BR)DSS Min (V): 8; DatasheetVersion: Rev. 1; PackageVersion: Rev. N, 11/2008; PackageReference: SOT-323-3-419-04; PackageDescription: 3-Pin Small Outline Transistor, Body 2 x 1.25 mm, Pitch 0.65 mm; Supplier 1: Digi-Key; Supplier Part Number 1: NTS2101PT1-ND; Configuration: Single; Package Type: SC-70-3 / SOT-323-3; Packing: Tape and Reel; VGS Max (V): 8; Mounting Technology: Surface Mount; ComponentLink1Description: Manufacturer URL; ComponentLink1URL: http://www.onsemi.com/; ComponentLink2Description: Datasheet; ComponentLink2URL: http://www.onsemi.cn/pub_link/Collateral/NTS2101P-D.PDF; ComponentLink3Description: Package Specification; ComponentLink3URL: http://www.onsemi.com/pub_link/Collateral/419-04.PDF
footprint ONSC-SOT-323-3-419-04_V (SOT23, 3-Leads, Body 2x1.25mm, Pitch 0.65mm)
pins: 1 G, 2 S, 3 D

## NTS2101PT1G
designator Q?
Power MOSFET, -8 V, -1.4 A, Single P-Channel, 3-Pin SOT-323, Pb-Free, Tape and Reel; Manufacturer: On Semiconductor; PartNumber: NTS2101PT1G; Channel Polarity: P Channel; Ciss Typ (pF): 640; Coss Typ (pF): 120; Crss Typ (pF): 82; ID Max (A): 1.4; Qrr Typ (nC): 9.5; V(BR)DSS Min (V): 8; DatasheetVersion: Rev. 1; PackageVersion: Rev. N, 11/2008; PackageReference: SOT-323-3-419-04; PackageDescription: 3-Pin Small Outline Transistor, Body 2 x 1.25 mm, Pitch 0.65 mm; Supplier 1: Digi-Key; Supplier Part Number 1: NTS2101PT1GOSTR-ND; Supplier 2: Digi-Key; Supplier Part Number 2: NTS2101PT1GOSCT-ND; Supplier 3: Digi-Key; Supplier Part Number 3: NTS2101PT1GOSDKR-ND; Supplier 4: Farnell; Supplier Part Number 4: 1453612RL; Supplier 5: Farnell; Supplier Part Number 5: 1453612; Supplier 6: Newark; Supplier Part Number 6: 10N9726; Supplier 7: Newark; Supplier Part Number 7: 45J2180; Supplier 8: Mouser; Supplier Part Number 8: 863-NTS2101PT1G; Configuration: Single; Package Type: SC-70-3 / SOT-323-3; Packing: Tape and Reel; RoHS: Pb-Free; VGS Max (V): 8; Mounting Technology: Surface Mount; ComponentLink1Description: Manufacturer URL; ComponentLink1URL: http://www.onsemi.com/; ComponentLink2Description: Datasheet; ComponentLink2URL: http://www.onsemi.cn/pub_link/Collateral/NTS2101P-D.PDF; ComponentLink3Description: Package Specification; ComponentLink3URL: http://www.onsemi.com/pub_link/Collateral/419-04.PDF
footprint ONSC-SOT-323-3-419-04_V (SOT23, 3-Leads, Body 2x1.25mm, Pitch 0.65mm)
pins: 1 G, 2 S, 3 D

## NTS4001NT1G
designator Q?
Small Signal MOSFET, 30 V, 270 mA, Single N-Channel, 3-Pin SC-70, Pb-Free, Tape and Reel; Manufacturer: On Semiconductor; PartNumber: NTS4001NT1G; Channel Polarity: N Channel; Ciss Typ (pF): 20; Coss Typ (pF): 19; Crss Typ (pF): 7.25; ID Max (A): 0.27; PD Max (W): 0.33; V(BR)DSS Min (V): 30; VGS(th) Max (V): 1.5; DatasheetVersion: Rev. 5; PackageVersion: Rev. N, 11/2008; PackageReference: SC-70-3-419-04; PackageDescription: 3-Pin Small Outline Transistor, Body 2 x 1.25 mm, Pitch 0.65 mm; Supplier 1: Digi-Key; Supplier Part Number 1: NTS4001NT1GOSTR-ND; Supplier 2: Digi-Key; Supplier Part Number 2: NTS4001NT1GOSCT-ND; Supplier 3: Digi-Key; Supplier Part Number 3: NTS4001NT1GOSDKR-ND; Supplier 4: Farnell; Supplier Part Number 4: 1453633; Supplier 5: Farnell; Supplier Part Number 5: 1453633RL; Supplier 6: Newark; Supplier Part Number 6: 83H7842; Supplier 7: Mouser; Supplier Part Number 7: 863-NTS4001NT1G; Configuration: Single; Package Type: SC-70-3; Packing: Tape and Reel; RoHS: Pb-Free; VGS Max (V): 20; Mounting Technology: Surface Mount; ComponentLink1Description: Manufacturer URL; ComponentLink1URL: http://www.onsemi.com/; ComponentLink2Description: Datasheet; ComponentLink2URL: http://www.onsemi.cn/pub_link/Collateral/NTS4001N-D.PDF; ComponentLink3Description: Package Specification; ComponentLink3URL: http://www.onsemi.cn/pub_link/Collateral/419-04.PDF
footprint ONSC-SC-70-3-419-04_V (SOT23, 3-Leads, Body 2x1.25mm, Pitch 0.65mm)
pins: 1 G, 2 S, 3 D

## NTS4101PT1
designator Q?
Power MOSFET, -20 V, -1.37 A, Single P-Channel, 3-Pin SOT-323, Tape and Reel; Manufacturer: On Semiconductor; PartNumber: NTS4101PT1; Channel Polarity: P Channel; Ciss Typ (pF): 603; Coss Typ (pF): 90; Crss Typ (pF): 62; ID Max (A): 1.37; PD Max (W): 0.329; Qrr Typ (nC): 4.25; V(BR)DSS Min (V): 20; VGS Max (V): 8; VGS(th) Max (V): 1.5; DatasheetVersion: Rev. 3; PackageVersion: Rev. N, 11/2008; PackageReference: SOT-323-3-419-04; PackageDescription: 3-Pin Small Outline Transistor, Body 2 x 1.25 mm, Pitch 0.65 mm; Supplier 1: Digi-Key; Supplier Part Number 1: NTS4101PT1-ND; Configuration: Single; Package Type: SC-70-3 / SOT-323-3; Packing: Tape and Reel; Mounting Technology: Surface Mount; ComponentLink1Description: Manufacturer URL; ComponentLink1URL: http://www.onsemi.com/; ComponentLink2Description: Datasheet; ComponentLink2URL: http://www.onsemi.cn/pub_link/Collateral/NTS4101P-D.PDF; ComponentLink3Description: Package Specification; ComponentLink3URL: http://www.onsemi.com/pub_link/Collateral/419-04.PDF
footprint ONSC-SOT-323-3-419-04_V (SOT23, 3-Leads, Body 2x1.25mm, Pitch 0.65mm)
pins: 1 G, 2 S, 3 D

## NTS4101PT1G
designator Q?
Power MOSFET, -20 V, -1.37 A, Single P-Channel, 3-Pin SOT-323, Pb-Free, Tape and Reel; Manufacturer: On Semiconductor; PartNumber: NTS4101PT1G; Channel Polarity: P Channel; Ciss Typ (pF): 603; Coss Typ (pF): 90; Crss Typ (pF): 62; ID Max (A): 1.37; PD Max (W): 0.329; Qrr Typ (nC): 4.25; V(BR)DSS Min (V): 20; VGS Max (V): 8; VGS(th) Max (V): 1.5; DatasheetVersion: Rev. 3; PackageVersion: Rev. N, 11/2008; PackageReference: SOT-323-3-419-04; PackageDescription: 3-Pin Small Outline Transistor, Body 2 x 1.25 mm, Pitch 0.65 mm; Supplier 1: Digi-Key; Supplier Part Number 1: NTS4101PT1GOSTR-ND; Supplier 2: Digi-Key; Supplier Part Number 2: NTS4101PT1GOSCT-ND; Supplier 3: Digi-Key; Supplier Part Number 3: NTS4101PT1GOSDKR-ND; Supplier 4: Farnell; Supplier Part Number 4: 1453617; Supplier 5: Farnell; Supplier Part Number 5: 1453617RL; Supplier 6: Newark; Supplier Part Number 6: 10N9727; Supplier 7: Mouser; Supplier Part Number 7: 863-NTS4101PT1G; Configuration: Single; Package Type: SC-70-3 / SOT-323-3; Packing: Tape and Reel; RoHS: Pb-Free; Mounting Technology: Surface Mount; ComponentLink1Description: Manufacturer URL; ComponentLink1URL: http://www.onsemi.com/; ComponentLink2Description: Datasheet; ComponentLink2URL: http://www.onsemi.cn/pub_link/Collateral/NTS4101P-D.PDF; ComponentLink3Description: Package Specification; ComponentLink3URL: http://www.onsemi.com/pub_link/Collateral/419-04.PDF
footprint ONSC-SOT-323-3-419-04_V (SOT23, 3-Leads, Body 2x1.25mm, Pitch 0.65mm)
pins: 1 G, 2 S, 3 D

## NTS4173PT1G
designator Q?
Power MOSFET, -30 V, -1.3 A, Single P-Channel, 3-Pin SC-70, Pb-Free, Tape and Reel; Manufacturer: On Semiconductor; PartNumber: NTS4173PT1G; Channel Polarity: P Channel; Ciss Typ (pF): 430; Coss Typ (pF): 55; Crss Typ (pF): 40; Qrr Typ (nC): 7; V(BR)DSS Min (V): 30; VGS Max (V): 12; VGS(th) Max (V): 1.5; DatasheetVersion: Rev. 0; PackageVersion: Rev. N, 11/2008; PackageReference: SC-70-3-419-04; PackageDescription: 3-Pin Small Outline Transistor, Body 2 x 1.25 mm, Pitch 0.65 mm; Supplier 1: Digi-Key; Supplier Part Number 1: NTS4173PT1GOSTR-ND; Supplier 2: Digi-Key; Supplier Part Number 2: NTS4173PT1GOSCT-ND; Supplier 3: Digi-Key; Supplier Part Number 3: NTS4173PT1GOSDKR-ND; Supplier 4: Farnell; Supplier Part Number 4: 2368459; Supplier 5: Farnell; Supplier Part Number 5: 1890733; Supplier 6: Newark; Supplier Part Number 6: 08R4029; Supplier 7: Newark; Supplier Part Number 7: 05R9182; Supplier 8: Mouser; Supplier Part Number 8: 863-NTS4173PT1G; Configuration: Single; Package Type: SC-70-3 / SOT-323-3; Packing: Tape and Reel; RoHS: Pb-Free; Mounting Technology: Surface Mount; ComponentLink1Description: Manufacturer URL; ComponentLink1URL: http://www.onsemi.com/; ComponentLink2Description: Datasheet; ComponentLink2URL: http://www.onsemi.cn/pub_link/Collateral/NTS4173P-D.PDF; ComponentLink3Description: Package Specification; ComponentLink3URL: http://www.onsemi.cn/pub_link/Collateral/419-04.PDF
footprint ONSC-SC-70-3-419-04_V (SOT23, 3-Leads, Body 2x1.25mm, Pitch 0.65mm)
pins: 1 G, 2 S, 3 D

## NTS4409NT1G
designator Q?
Small Signal MOSFET, 25 V, 0.75 A, Single, N-Channel, ESD Protection, 3-Pin SOT-323, Pb-Free, Tape and Reel; Manufacturer: On Semiconductor; PartNumber: NTS4409NT1G; Channel Polarity: N Channel; Ciss Typ (pF): 49; Coss Typ (pF): 22.4; Crss Typ (pF): 8; ID Max (A): 0.75; V(BR)DSS Min (V): 25; VGS(th) Max (V): 1.5; DatasheetVersion: Rev. 4; PackageVersion: Rev. N, 11/2008; PackageReference: SOT-323-3-419-04; PackageDescription: 3-Pin Small Outline Transistor, Body 2 x 1.25 mm, Pitch 0.65 mm; Supplier 1: Digi-Key; Supplier Part Number 1: NTS4409NT1GOSTR-ND; Supplier 2: Digi-Key; Supplier Part Number 2: NTS4409NT1GOSCT-ND; Supplier 3: Digi-Key; Supplier Part Number 3: NTS4409NT1GOSDKR-ND; Supplier 4: Farnell; Supplier Part Number 4: 2145742; Supplier 5: Newark; Supplier Part Number 5: 09R9672; Supplier 6: Newark; Supplier Part Number 6: 70K4033; Supplier 7: Mouser; Supplier Part Number 7: 863-NTS4409NT1G; Configuration: Single; Package Type: SC-70-3 / SOT-323-3; Packing: Tape and Reel; RoHS: Pb-Free; VGS Max (V): 8; Mounting Technology: Surface Mount; ComponentLink1Description: Manufacturer URL; ComponentLink1URL: http://www.onsemi.com/; ComponentLink2Description: Datasheet; ComponentLink2URL: http://www.onsemi.cn/pub_link/Collateral/NTS4409N-D.PDF; ComponentLink3Description: Package Specification; ComponentLink3URL: http://www.onsemi.com/pub_link/Collateral/419-04.PDF
footprint ONSC-SOT-323-3-419-04_V (SOT23, 3-Leads, Body 2x1.25mm, Pitch 0.65mm)
pins: 1 G, 2 S, 3 D

## NTTFS3A08PZTAG
designator Q?
Power MOSFET, -20 V, -15 A, Single P-Channel, 8-Pin WDFN, Pb-Free, Tape and Reel; Manufacturer: On Semiconductor; PartNumber: NTTFS3A08PZTAG; Channel Polarity: P Channel; Ciss Typ (pF): 5000; Coss Typ (pF): 600; Crss Typ (pF): 540; ID Max (A): 15; Qrr Typ (nC): 234; V(BR)DSS Min (V): 20; VGS Max (V): 8; VGS(th) Max (V): 1; DatasheetVersion: Rev. 2; PackageVersion: Rev. D, 04/2012; PackageReference: WDFN-8-511AB; PackageDescription: 8-Pin Small Outline No-Lead, Body 3.05 x 3.05 mm, Pitch 0.65 mm; Supplier 1: Newark; Supplier Part Number 1: 45W3760; Supplier 2: Mouser; Supplier Part Number 2: 863-NTTFS3A08PZTAG; Configuration: Single; Package Type: u8FL / WDFN-8; Packing: Tape and Reel; RoHS: Pb-Free; Mounting Technology: Surface Mount; ComponentLink1Description: Manufacturer URL; ComponentLink1URL: http://www.onsemi.com/; ComponentLink2Description: Datasheet; ComponentLink2URL: http://www.onsemi.cn/pub_link/Collateral/NTTFS3A08PZ-D.PDF; ComponentLink3Description: Package Specification; ComponentLink3URL: http://www.onsemi.com/pub_link/Collateral/511AB.PDF
footprint ONSC-WDFN-8-511AB_V (DFN, 8-Leads, Body 3.05x3.05mm, Pitch 0.65mm)
pins: 1 S, 2 S, 3 S, 4 G, 5 D
text: 1, 2, 3

## NTTFS3A08PZTWG
designator Q?
Power MOSFET, -20 V, -15 A, Single P-Channel, 8-Pin WDFN, Pb-Free, Tape and Reel; Manufacturer: On Semiconductor; PartNumber: NTTFS3A08PZTWG; Channel Polarity: P Channel; Ciss Typ (pF): 5000; Coss Typ (pF): 600; Crss Typ (pF): 540; ID Max (A): 15; Qrr Typ (nC): 234; V(BR)DSS Min (V): 20; VGS Max (V): 8; VGS(th) Max (V): 1; DatasheetVersion: Rev. 2; PackageVersion: Rev. D, 04/2012; PackageReference: WDFN-8-511AB; PackageDescription: 8-Pin Small Outline No-Lead, Body 3.05 x 3.05 mm, Pitch 0.65 mm; Supplier 1: Mouser; Supplier Part Number 1: 863-NTTFS3A08PZTWG; Configuration: Single; Package Type: u8FL / WDFN-8; Packing: Tape and Reel; RoHS: Pb-Free; Mounting Technology: Surface Mount; ComponentLink1Description: Manufacturer URL; ComponentLink1URL: http://www.onsemi.com/; ComponentLink2Description: Datasheet; ComponentLink2URL: http://www.onsemi.cn/pub_link/Collateral/NTTFS3A08PZ-D.PDF; ComponentLink3Description: Package Specification; ComponentLink3URL: http://www.onsemi.com/pub_link/Collateral/511AB.PDF
footprint ONSC-WDFN-8-511AB_V (DFN, 8-Leads, Body 3.05x3.05mm, Pitch 0.65mm)
pins: 1 S, 2 S, 3 S, 4 G, 5 D
text: 1, 2, 3

## NTTFS4C05NTAG
designator Q?
Power MOSFET, 30 V, 75 A, Single N-Channel, 8-Pin WDFN, Pb-Free, Tape and Reel; Manufacturer: On Semiconductor; PartNumber: NTTFS4C05NTAG; Channel Polarity: N Channel; Ciss Typ (pF): 1988; Coss Typ (pF): 1224; Crss Typ (pF): 71; ID Max (A): 75; Qrr Typ (nC): 34.4; V(BR)DSS Min (V): 30; VGS Max (V): 20; VGS(th) Max (V): 2.2; DatasheetVersion: Rev. 1; PackageVersion: Rev. D, 04/2012; PackageReference: WDFN-8-511AB; PackageDescription: 8-Pin Small Outline No-Lead, Body 3.05 x 3.05 mm, Pitch 0.65 mm; Supplier 1: Newark; Supplier Part Number 1: 60W1812; Supplier 2: Mouser; Supplier Part Number 2: 863-NTTFS4C05NTAG; Configuration: Single; Package Type: u8FL / WDFN-8; Packing: Tape and Reel; RoHS: Pb-Free; Mounting Technology: Surface Mount; ComponentLink1Description: Manufacturer URL; ComponentLink1URL: http://www.onsemi.com/; ComponentLink2Description: Datasheet; ComponentLink2URL: http://www.onsemi.cn/pub_link/Collateral/NTTFS4C05N-D.PDF; ComponentLink3Description: Package Specification; ComponentLink3URL: http://www.onsemi.com/pub_link/Collateral/511AB.PDF
footprint ONSC-WDFN-8-511AB_V (DFN, 8-Leads, Body 3.05x3.05mm, Pitch 0.65mm)
pins: 1 S, 2 S, 3 S, 4 G, 5 D
text: 1, 2, 3

## NTTFS4C05NTWG
designator Q?
Power MOSFET, 30 V, 75 A, Single N-Channel, 8-Pin WDFN, Pb-Free, Tape and Reel; Manufacturer: On Semiconductor; PartNumber: NTTFS4C05NTWG; Channel Polarity: N Channel; Ciss Typ (pF): 1988; Coss Typ (pF): 1224; Crss Typ (pF): 71; ID Max (A): 75; Qrr Typ (nC): 34.4; V(BR)DSS Min (V): 30; VGS Max (V): 20; VGS(th) Max (V): 2.2; DatasheetVersion: Rev. 1; PackageVersion: Rev. D, 04/2012; PackageReference: WDFN-8-511AB; PackageDescription: 8-Pin Small Outline No-Lead, Body 3.05 x 3.05 mm, Pitch 0.65 mm; Supplier 1: Newark; Supplier Part Number 1: 60W1813; Supplier 2: Mouser; Supplier Part Number 2: 863-NTTFS4C05NTWG; Configuration: Single; Package Type: u8FL / WDFN-8; Packing: Tape and Reel; RoHS: Pb-Free; Mounting Technology: Surface Mount; ComponentLink1Description: Manufacturer URL; ComponentLink1URL: http://www.onsemi.com/; ComponentLink2Description: Datasheet; ComponentLink2URL: http://www.onsemi.cn/pub_link/Collateral/NTTFS4C05N-D.PDF; ComponentLink3Description: Package Specification; ComponentLink3URL: http://www.onsemi.com/pub_link/Collateral/511AB.PDF
footprint ONSC-WDFN-8-511AB_V (DFN, 8-Leads, Body 3.05x3.05mm, Pitch 0.65mm)
pins: 1 S, 2 S, 3 S, 4 G, 5 D
text: 1, 2, 3

## NTTFS4C06NTAG
designator Q?
Power MOSFET, 30 V, 67 A, Single N-Channel, 8-Pin WDFN, Pb-Free, Tape and Reel; Manufacturer: On Semiconductor; PartNumber: NTTFS4C06NTAG; Channel Polarity: N Channel; Ciss Typ (pF): 1683; Coss Typ (pF): 841; Crss Typ (pF): 40; ID Max (A): 67; Qrr Typ (nC): 22; V(BR)DSS Min (V): 30; VGS Max (V): 20; VGS(th) Max (V): 2.2; DatasheetVersion: Rev. 0; PackageVersion: Rev. D, 04/2012; PackageReference: WDFN-8-511AB; PackageDescription: 8-Pin Small Outline No-Lead, Body 3.05 x 3.05 mm, Pitch 0.65 mm; Supplier 1: Newark; Supplier Part Number 1: 11X3691; Supplier 2: Mouser; Supplier Part Number 2: 863-NTTFS4C06NTAG; Configuration: Single; Package Type: u8FL / WDFN-8; Packing: Tape and Reel; RoHS: Pb-Free; Mounting Technology: Surface Mount; ComponentLink1Description: Manufacturer URL; ComponentLink1URL: http://www.onsemi.com/; ComponentLink2Description: Datasheet; ComponentLink2URL: http://www.onsemi.com/pub_link/Collateral/NTTFS4C06N-D.PDF; ComponentLink3Description: Package Specification; ComponentLink3URL: http://www.onsemi.com/pub_link/Collateral/511AB.PDF
footprint ONSC-WDFN-8-511AB_V (DFN, 8-Leads, Body 3.05x3.05mm, Pitch 0.65mm)
pins: 1 S, 2 S, 3 S, 4 G, 5 D
text: 1, 2, 3